# Altium footprint library diapers.PcbLib: 18 footprints (part 2 of 2)
Each footprint in its own frame and in the unit in brackets; x right, y up, seen from the top. Pads: shape width x height; smd on the part's side, far side on the other; paste and mask are expansions set on the pad; w line width, h text height; cw(c..) or ccw(c..) is an arc to the next point about the centre after c.
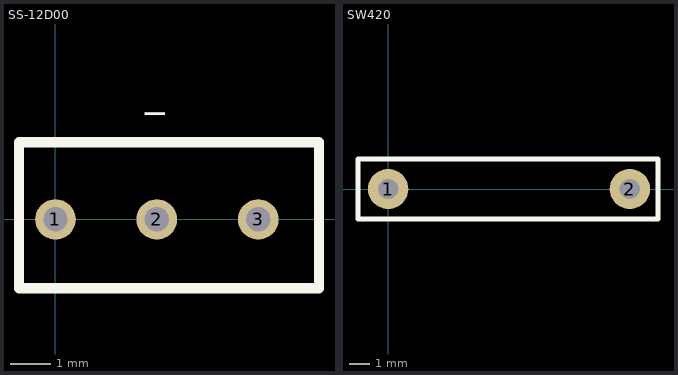
[diagram p1: the footprints below, top view; thin cyan lines are the x and y axes]

## SS-12D00 [mm] "SS-12D00(1P2T) 立式 柄高5MM"
pads (3):
  round 1 hole 0.6: 1(0,0) 2(2.5,0) 3(5,0)
Top Overlay:
  lines w0.254: -0.9,-1.7 -0.9,1.9 6.5,1.9 6.5,-1.7 -0.9,-1.7
  text "I" at 2.196,2.7 h0.5

## SW420 [mm] "常闭型 振动开关SW-420 高灵敏震动开关2708全方位感应传感器"
pads (2):
  round 2 hole 1: 1(0,0) 2(12,0)
Top Overlay:
  lines w0.25: -1.5,-1.5 -1.5,-1 -1.5,1.5 13.4,1.5 13.4,-1.5 -1.5,-1.5